# Altium schematic symbol library SCH - POWER - LINEAR VREG - TI UCC384-12_D_8.SchLib: 1 symbol
Pins are listed as number, name and electrical type; pins without a type are passive.

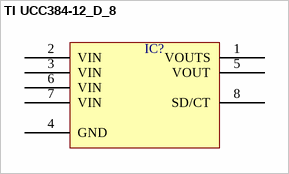
[diagram p0: symbol TI UCC384-12_D_8]

## TI UCC384-12_D_8
designator IC?  (value not drawn)
pins: 1 VOUTS, 2 VIN, 3 VIN, 4 GND, 5 VOUT, 6 VIN, 7 VIN, 8 SD/CT